# Altium schematic symbol library MCP73833 4.SchLib: 1 symbol
Pins are listed as number, name and electrical type; pins without a type are passive.

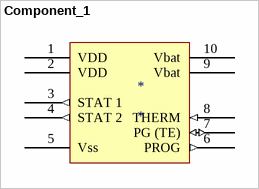
[diagram p0: symbol Component_1]

## Component_1
designator *
footprint SOP10
pins: 1 VDD (oe), 2 VDD (power), 3 STAT 1 (out), 4 STAT 2 (out), 5 Vss (power), 6 PROG (out), 7 PG (TE) (io), 8 THERM (in), 9 Vbat (power), 10 Vbat